# EAGLE library part BMC150 (library Ampifier)
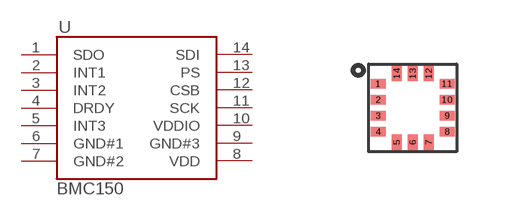
[diagram p1: symbol with the pads of LGA2-2; footprint LGA2-2]

Designator prefix -

## BMC150  [LGA2-2]
1  SDO
2  INT1
3  INT2
4  DRDY
5  INT3
6  GND#1
7  GND#2
8  VDD
9  GND#3
10  VDDIO
11  SCK
12  CSB
13  PS
14  SDI

## Footprint LGA2-2 (pad centres in mm)
smd 0.38 x 0.24: 1 -0.863,0.6; 2 -0.863,0.2; 3 -0.863,-0.2; 4 -0.863,-0.6; 8 0.863,-0.6; 9 0.863,-0.2; 10 0.863,0.2; 11 0.863,0.6
smd 0.24 x 0.38: 5 -0.4,-0.863; 6 0,-0.863; 7 0.4,-0.863; 12 0.4,0.863; 13 0,0.863; 14 -0.4,0.863